# EAGLE library part ZXMHC3A01T8 (library zetex)
COMPLEMENTARY 30V ENHANCEMENT MODE MOSFET H-BRIDGE
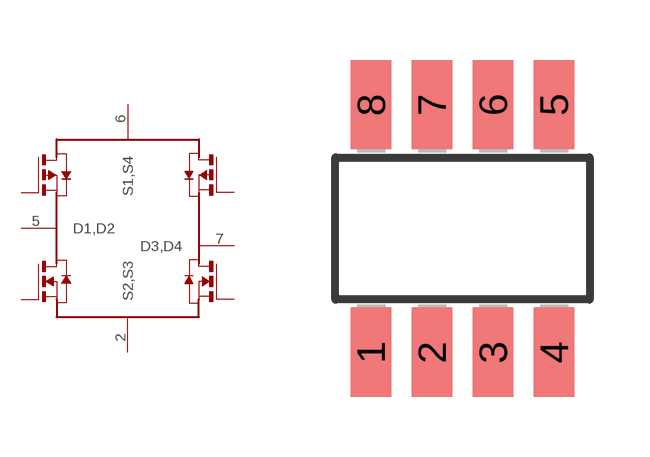
[diagram p18: symbol with the pads of SM8; footprint SM8]

Designator prefix -

## ZXMHC3A01T8  [SM8]
1  G3  pas
2  S2,S3  pas
3  G2  pas
4  G1  pas
5  D1,D2  pas
6  S1,S4  pas
7  D3,D4  pas
8  G4  pas

## Footprint SM8 (pad centres in mm)
SM8 Package
smd 1.016 x 2.235: 1 -2.286,-3.099; 2 -0.762,-3.099; 3 0.762,-3.099; 4 2.286,-3.099; 5 2.286,3.099; 6 0.762,3.099; 7 -0.762,3.099; 8 -2.286,3.099